# Altium footprint library Cypss5131_CY4603.PcbLib: 41 footprints (part 1 of 3)
Each footprint in its own frame and in the unit in brackets; x right, y up, seen from the top. Pads: shape width x height; smd on the part's side, far side on the other; paste and mask are expansions set on the pad; w line width, h text height; cw(c..) or ccw(c..) is an arc to the next point about the centre after c.
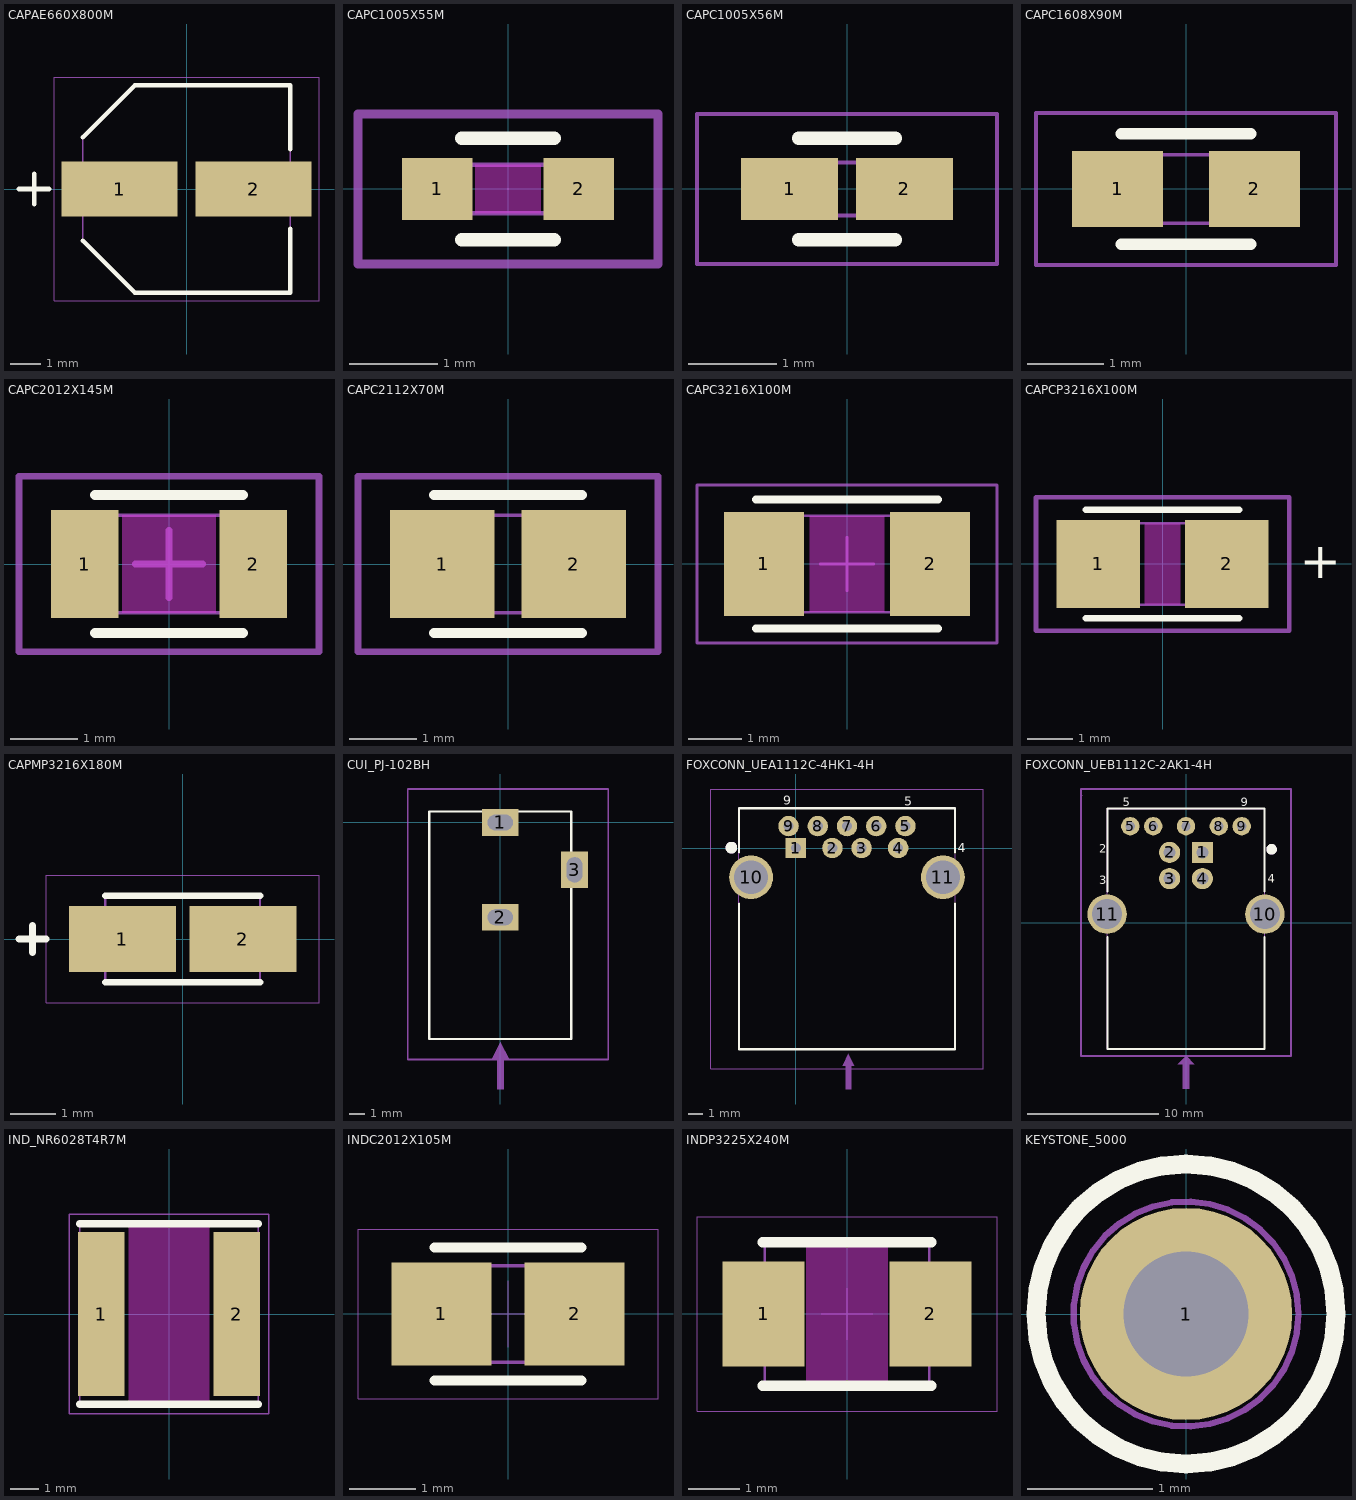
[diagram p0: the footprints below, top view; thin cyan lines are the x and y axes]

## CAPAE660X800M [mm]
height 8
pads (2):
  rect 3.8x1.8 smd mask+0: 1(-2.2,0) 2(2.2,0)
Top Overlay:
  lines w0.15: -5.5,0 -4.5,0 ; -5,-0.5 -5,0.5 ; -3.4,-1.7 -1.7,-3.4 -1.699,-3.401 3.401,-3.401 3.4,-3.4 3.4,-1.3 ; -3.4,1.7 -1.7,3.4 3.4,3.4 3.4,1.3
  text ".Designator" at -3.92,4.294 h0.8
Mechanical 13:
  lines w0.05: -3.4,-1.7 -1.7,-3.4 3.4,-3.4 3.4,3.4 -1.7,3.4 -3.4,1.7 -3.4,-1.7
  text ".Designator" at -4.142,-0.291 h0.8
Mechanical 14:
  text "R380_180" at -3.009,-5.076 h0.8
  text "CAPAE660X800M" at -5.4,5.9 h0.8
Mechanical 15:
  lines w0.01: -4.35,-3.675 -4.35,3.675 4.35,3.675 4.35,-3.675 -4.35,-3.675
3D body: height 8, standoff 0, extent -3.401,-3.401 3.401,3.401

## CAPC1005X55M [mm]
height 0.55
pads (2):
  rect 0.8x0.7 smd mask+0: 1(-0.8,0) 2(0.8,0)
Top Layer keep-out:
  rectangle: -0.375,-0.275 0.375,0.275
Top Overlay:
  lines w0.15: -0.525,-0.575 0.525,-0.575 ; -0.525,0.575 0.525,0.575
  text ".Designator" at -4.05,1.35 h0.8
Mechanical 13:
  lines w0.05: -0.525,-0.275 0.525,-0.275 0.525,0.275 -0.525,0.275 -0.525,-0.275
  text ".Designator" at -4.047,-0.16 h0.8
Mechanical 14:
  text "R80_70" at -2.25,-2 h0.8
  text "CAPC1005X55M" at -4.5,2.5 h0.8
Mechanical 15:
  lines w0.1: -1.7,-0.85 1.7,-0.85 1.7,0.85 -1.7,0.85 -1.7,-0.85
3D body: height 0.55, standoff 0, extent -0.525,-0.275 0.525,0.275

## CAPC1005X56M [mm]
height 0.56
pads (2):
  rect 1.1x0.7 smd mask+0: 1(-0.65,0) 2(0.65,0)
Top Overlay:
  lines w0.15: -0.55,-0.575 0.55,-0.575 ; -0.55,0.575 0.55,0.575
  text ".Designator" at -3.893,1.944 h0.8
Mechanical 13:
  lines w0.05: -0.55,-0.3 -0.55,0.3 0.55,0.3 0.55,-0.3 -0.55,-0.3
  text ".Designator" at -3.975,-0.137 h0.8
Mechanical 14:
  text "R70_110" at -2.709,-2.922 h0.8
  text "CAPC1005X56M" at -4.673,3.165 h0.8
Mechanical 15:
  lines w0.05: -1.7,-0.85 -1.7,0.85 1.7,0.85 1.7,-0.85 -1.7,-0.85
3D body: height 0.56, standoff 0, extent -0.55,-0.3 0.55,0.3

## CAPC1608X90M [mm]
height 0.9
pads (2):
  rect 1.2x1 smd mask+0: 1(-0.9,0) 2(0.9,0)
Top Overlay:
  lines w0.15: -0.85,-0.725 0.85,-0.725 ; -0.85,0.725 0.85,0.725
  text ".Designator" at -4.006,1.665 h0.8
Mechanical 13:
  lines w0.05: -0.85,-0.45 0.85,-0.45 0.85,0.45 -0.85,0.45 -0.85,-0.45
  text ".Designator" at -4.069,-0.185 h0.8
Mechanical 14:
  text "R100_120" at -2.883,-3.483 h0.8
  text "CAPC1608X90M" at -4.373,3.933 h0.8
Mechanical 15:
  lines w0.05: -1.975,-1 1.975,-1 1.975,1 -1.975,1 -1.975,-1
3D body: height 0.9, standoff 0, extent -0.85,-0.45 0.85,0.45

## CAPC2012X145M [mm]
height 1.45
pads (2):
  rect 1x1.6 smd mask+0: 1(-1.25,0) 2(1.25,0)
Top Layer keep-out:
  rectangle: -0.7,-0.725 0.7,0.725
Top Overlay:
  lines w0.15: -1.1,-1.025 1.1,-1.025 ; -1.1,1.025 1.1,1.025
  text ".Designator" at -4.094,1.821 h0.8
Mechanical 13:
  lines w0.05: -1.1,-0.725 -1.1,0.725 1.1,0.725 1.1,-0.725 -1.1,-0.725
  text ".Designator" at -4.101,0.004 h0.8
Mechanical 14:
  text "R100_160" at -2.677,-3.143 h0.8
  text "CAPC2012X145M" at -4.343,3.147 h0.8
Mechanical 15:
  lines w0.1: -0.5,0 0.5,0 ; 0,-0.5 0,0.5 ; -2.225,-1.3 -2.225,1.3 2.225,1.3 2.225,-1.3 -2.225,-1.3
3D body: height 1.45, standoff 0, extent -1.1,-0.725 1.1,0.725

## CAPC2112X70M [mm] "Chip Capacitor, 2-Leads, Body 2.0x1.3mm, IPC Low Density"
height 0.7
pads (2):
  rect 1.55x1.6 smd paste+0 mask+0: 1(-0.975,0)
  rect 1.55x1.6 smd mask+0: 2(0.975,0)
Top Overlay:
  lines w0.15: -1.1,-1.025 1.1,-1.025 ; -1.1,1.025 1.1,1.025
  text ".Designator" at -3.915,2.37 h0.8
Mechanical 13:
  lines w0.05: -1.1,-0.725 -1.1,0.725 1.1,0.725 1.1,-0.725 -1.1,-0.725
  text ".Designator" at -4.416,-0.259 h0.8
Mechanical 14:
  text "CAPC2112X70M" at -4.369,4.149 h0.8
  text "R160_155" at -2.566,-3.286 h0.8
Mechanical 15:
  lines w0.1: -2.225,-1.3 -2.225,1.3 2.225,1.3 2.225,-1.3 -2.225,-1.3
3D body: height 0.7, standoff 0, extent -1.1,-0.725 1.1,0.725

## CAPC3216X100M [mm]
height 1
pads (2):
  rect 1.5x1.95 smd mask+0: 1(-1.55,0) 2(1.55,0)
Top Layer keep-out:
  rectangle: -0.7,-0.9 0.7,0.9
Top Overlay:
  lines w0.15: -1.7,-1.2 1.7,-1.2 ; -1.7,1.2 1.7,1.2
  text ".Designator" at -4.105,2.041 h0.8
Mechanical 13:
  lines w0.05: -1.7,-0.9 1.7,-0.9 1.7,0.9 -1.7,0.9 -1.7,-0.9
  text ".Designator" at -4.227,-0.111 h0.8
Mechanical 14:
  text "R150_195" at -2.96,-3.101 h0.8
  text "CAPC3216X100M" at -4.883,3.3 h0.8
Mechanical 15:
  lines w0.05: -0.5,0 0.5,0 ; 0,-0.5 0,0.5 ; -2.8,-1.475 2.8,-1.475 2.8,1.475 -2.8,1.475 -2.8,-1.475
3D body: height 1, standoff 0, extent -1.7,-0.9 1.7,0.9

## CAPCP3216X100M [mm]
height 1
pads (2):
  rect 1.85x1.95 smd mask+0: 1(-1.425,0) 2(1.425,0)
Top Layer keep-out:
  rectangle: -0.4,-0.9 0.4,0.9
Top Overlay:
  lines w0.15: -1.7,-1.2 1.7,-1.2 ; -1.7,1.2 1.7,1.2
  text ".Designator" at -3.961,2.005 h0.8
  text "+" at 3.04,-0.315 h0.8
Mechanical 13:
  lines w0.05: -1.7,-0.9 -1.7,0.9 1.7,0.9 1.7,-0.9 -1.7,-0.9
  text ".Designator" at -3.978,-0.213 h0.8
  text "+" at 3.043,-0.318 h0.8
Mechanical 14:
  text "R185_195" at -3.005,-3.565 h0.8
  text "CAPCP3216X100M" at -5.122,3.327 h0.8
Mechanical 15:
  lines w0.1: -2.8,-1.475 -2.8,1.475 2.8,1.475 2.8,-1.475 -2.8,-1.475
3D body: height 1, standoff 0, extent -1.7,-0.9 1.7,0.9

## CAPMP3216X180M [mm] "Molded Capacitor, 2-Leads, Body 3.2x1.6mm, IPC Low Density"
height 1.8
pads (2):
  rect 2.35x1.45 smd mask+0: 1(-1.325,0) 2(1.325,0)
Top Overlay:
  lines w0.15: -1.7,-0.95 1.7,-0.95 ; -1.7,0.95 1.7,0.95
  lines w0.152: -3.6,0 -3,0 ; -3.3,-0.3 -3.3,0.3
  text ".Designator" at -3.931,1.915 h0.8
Mechanical 13:
  lines w0.05: -1.7,-0.9 -1.7,0.9 1.7,0.9 1.7,-0.9 -1.7,-0.9
  text ".Designator" at -3.988,-0.185 h0.8
Mechanical 14:
  text "R145_235" at -3.251,-2.677 h0.8
  text "CAPMP3216X180M" at -5.104,3.523 h0.8
Mechanical 15:
  lines w0.01: -3,-1.4 -3,1.4 3,1.4 3,-1.4 -3,-1.4
3D body: height 1.8, standoff 0, extent -1.7,-0.9 1.7,0.9

## CUI_PJ-102BH [mm]
height 11
pads (3):
  rect 2.3x1.7 hole 1 slot 1.6 at 0 deg mask+0: 1(0,0) 2(0,-6)
  rect 1.7x2.3 hole 1 slot 1.6 at 90 deg mask+0: 3(4.7,-3)
Top Overlay:
  lines w0.15: 4.5,-10.2 4.5,-3 ; -4.5,-13.7 -4.5,0.7 4.5,0.7 4.5,-13.7 -4.5,-13.7
  text ".Designator" at -3.997,2.804 h0.8
Mechanical 1:
  region: -0.195,-14.937 -0.189,-16.866 0.213,-16.866 0.205,-14.937 0.55,-14.931 0.012,-13.911 -0.518,-14.955
Mechanical 13:
  lines w0.05: -4.5,-13.7 4.5,-13.7 4.5,0.7 -4.5,0.7 -4.5,-13.7
  text ".Designator" at -3.997,-7.876 h0.8
Mechanical 14:
  text "R230_170H160_100" at -5.765,-18.172 h0.8
  text "CUI_PJ-102BH" at -4.355,4.236 h0.8
Mechanical 15:
  lines w0.1: -5.845,-15 6.82,-15 6.82,2.12 0,2.12 -5.845,2.12 -5.845,-15
3D body: height 11, standoff 0, extent -4.525,-13.725 4.525,0.725

## FOXCONN_UEA1112C-4HK1-4H [mm]
height 6.99
pads (11):
  rect 1.4x1.4 hole 0.7 mask+0: 1(0,0)
  round 1.4 hole 0.7 mask+0: 2(2.5,0) 3(4.5,0) 4(7,0) 5(7.5,1.5) 6(5.5,1.5) 7(3.5,1.5) 8(1.5,1.5) 9(-0.5,1.5)
  round 3 hole 2.3 mask+0: 10(-3.07,-2) 11(10.07,-2)
Top Overlay:
  circle w0.4: c-4.416,0.025 r0.2
  lines w0.15: -3.9,-3.81 -3.9,-13.78 10.896,-13.78 ; -3.9,-0.3 -3.9,2.72 ; -3.9,2.718 10.9,2.718 ; 10.898,-0.3 10.898,2.719 ; 10.9,-13.78 10.9,-3.81
  text "4" at 11.1,-0.279 h0.64
  text "5" at 7.417,2.896 h0.64
  text "9" at -0.864,2.946 h0.64
  text ".Designator" at -0.7,4.5 h0.8
Mechanical 1:
  region: 3.4,-14.9 3.4,-16.5 3.8,-16.5 3.8,-14.9 4,-14.9 3.6,-14.1 3.2,-14.9
Mechanical 13:
  circle w0.4: c-4.416,0.025 r0.2
  lines w0.05: -3.9,-13.78 -3.9,2.72 10.9,2.72 10.9,-13.78 -3.9,-13.78
  text ".Designator" at -0.001,-6.452 h0.8
Mechanical 14:
  text "C300H230" at 4.104,-18.901 h0.8
  text "S140H70" at 4.413,-17.597 h0.8
  text "C140H70" at 4.447,-16.328 h0.8
  text "FOXCONN_UEA1112C-4HK1-4H" at -5,6.1 h0.8
Mechanical 15:
  lines w0.05: -5.84,-15.1 12.84,-15.1 12.84,4.04 -5.84,4.04 -5.84,-15.1
3D body: height 6.99, standoff 0, extent -3.925,-13.805 10.925,2.745

## FOXCONN_UEB1112C-2AK1-4H [mm]
height 12.9
pads (11):
  rect 1.62x1.62 hole 0.92 mask+0: 1(1.25,5.353)
  round 1.62 hole 0.92 mask+0: 2(-1.25,5.353) 3(-1.25,3.353) 4(1.25,3.353)
  round 1.4 hole 0.7 mask+0: 5(-4.25,7.353) 6(-2.5,7.353) 7(0,7.353) 8(2.5,7.353) 9(4.25,7.353)
  round 3 hole 2.3 mask+0: 10(6.02,0.643) 11(-6.02,0.643)
Top Overlay:
  circle w0.4: c6.531,5.588 r0.2
  lines w0.15: -6,-1.082 -6,-9.657 6,-9.657 6,-1.082 ; -6,2.368 -6,8.693 6,8.693 6,2.368
  text "4" at 6.223,3.048 h0.64
  text "3" at -6.604,2.921 h0.64
  text "2" at -6.604,5.334 h0.64
  text "5" at -4.826,8.89 h0.64
  text "9" at 4.191,8.89 h0.64
  text ".Designator" at -3.048,9.017 h0.64
Mechanical 13:
  circle w0.4: c6.531,5.588 r0.2
  region: -0.635,-10.795 -0.254,-10.795 -0.254,-12.7 0.254,-12.7 0.254,-10.795 0.635,-10.795 0,-10.16
  lines w0.05: -6,-9.657 6,-9.657 6,8.693 -6,8.693 -6,-9.657
  text ".Designator" at -3.175,0.127 h0.64
Mechanical 14:
  text "FOXCONN_UEB1112C-2AK1-4H" at -7.366,10.922 h0.64
Mechanical 15:
  lines w0.152: -8.03,9.652 -7.972,9.71 ; -8.03,10.192 -8.03,-10.192 8.03,-10.192 8.03,10.192 -7.972,10.192
Mechanical 20:
  text "S140H70" at -2.383,-10.974 h0.64
  text "C140H70" at -2.421,-12.33 h0.64
  text "C162H92" at -2.384,-13.65 h0.64
  text "C300H230" at -2.7,-15.043 h0.64
  text "FOXCONN_UEB1112C-2AK1-4H" at -7.246,11.75 h0.64
3D body: height 12.9, standoff 0, extent -5.999,-9.656 5.999,8.692

## IND_NR6028T4R7M [mm]
height 2.8
pads (2):
  rect 1.6x5.7 smd mask+0: 1(-2.35,0) 2(2.35,0)
Top Layer keep-out:
  rectangle: -1.4,-3.1 1.4,3.1
Top Overlay:
  lines w0.254: -3.1,-3.127 3.1,-3.127 ; -3.1,3.127 3.1,3.127
  text ".Designator" at -3.94,4.253 h0.8
Mechanical 13:
  lines w0.05: -3.1,-3.1 -3.1,3.1 3.1,3.1 3.1,-3.1 -3.1,-3.1
  text ".Designator" at -4.452,-0.208 h0.8
Mechanical 14:
  text "R160_570" at -3.122,-4.636 h0.8
  text "IND_NR6028T4R7M" at -5.574,5.604 h0.8
Mechanical 15:
  lines w0.05: -3.45,-3.45 3.45,-3.45 3.45,3.45 -3.45,3.45 -3.45,-3.45
3D body: height 2.8, standoff 0, extent -3.125,-3.125 3.125,3.125

## INDC2012X105M [mm] "Chip Resistor, 2-Leads, Body 2.0x1.3mm, IPC Low Density"
height 1.05
pads (2):
  rect 1.5x1.55 smd mask+0: 1(-1,0) 2(1,0)
Top Overlay:
  lines w0.15: -1.1,-1 1.1,-1 ; -1.1,1 1.1,1
  text ".Designator" at -4.219,1.87 h0.8
Mechanical 13:
  lines w0.05: -1.1,-0.725 -1.1,0.725 1.1,0.725 1.1,-0.725 -1.1,-0.725
  text ".Designator" at -4.164,-0.099 h0.8
Mechanical 14:
  text "INDC2012X105M" at -4.672,3.526 h0.8
  text "R155_150" at -2.865,-2.949 h0.8
Mechanical 15:
  lines w0.01: -0.5,0 0.5,0 ; 0,-0.5 0,0.5 ; -2.25,-1.275 -2.25,1.275 2.25,1.275 2.25,-1.275 -2.25,-1.275
3D body: height 1.05, standoff 0, extent -1.1,-0.725 1.1,0.725

## INDP3225X240M [mm]
height 2.4
pads (2):
  rect 1.6x2.05 smd mask+0: 1(-1.625,0) 2(1.625,0)
Top Layer keep-out:
  rectangle: -0.8,-1.4 0.8,1.35
Top Overlay:
  lines w0.2: -1.65,-1.4 1.65,-1.4 ; -1.65,1.4 1.65,1.4
  text ".Designator" at -4.059,2.446 h0.8
Mechanical 13:
  lines w0.05: -1.6,-1.35 -1.6,1.35 1.6,1.35 1.6,-1.35 -1.6,-1.35
  text ".Designator" at -4.219,-0.195 h0.8
Mechanical 14:
  text "INDP3225X240M" at -4.649,3.854 h0.8
  text "R205_160" at -2.848,-3.248 h0.8
Mechanical 15:
  lines w0.01: -0.5,0 0.5,0 ; 0,-0.5 0,0.5 ; -2.925,-1.9 -2.925,1.9 2.925,1.9 2.925,-1.9 -2.925,-1.9
3D body: height 2.4, standoff 0, extent -1.6,-1.35 1.6,1.35

## KEYSTONE_5000 [mm]
height 4.572
pads (1):
  round 1.7 hole 1 mask+0: 1(0,0)
Top Overlay:
  circle w0.152: c0,0 r1.2
  text ".Designator" at -3.325,1.792 h0.64
Mechanical 13:
  circle w0.051: c0,0 r0.9
  text ".Designator" at -3.263,-0.11 h0.64
Mechanical 14:
  text "C170H100" at -3.203,-2.501 h0.8
  text "KEYSTONE_5000" at -4.793,2.873 h0.8
3D body: height 4.57, standoff 0, extent -0.907,-0.907 0.907,0.907